# Altium integrated library Altium_WE-LHMI_rev25a.IntLib: 193 symbols (part 2 of 4)
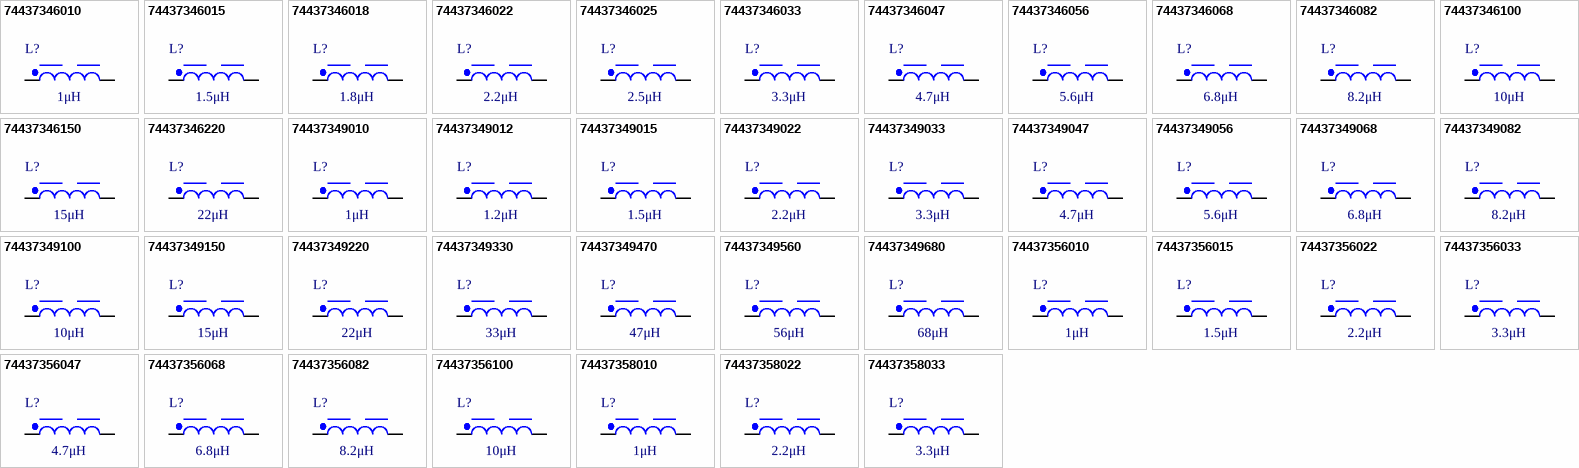
[diagram p5: symbols 74437346010 to 74437358033]

## 74437349015
designator L?, comment 1.5μH
WE-LHMI SMT Power Inductor, size 7050, 1.5μH, 11.3A, 9mΩ; Manufacturer Part Number: 74437349015; Manufacturer: Wurth Elektronik; Case/Size Code: 7050; Saturation Current @ 10%: 9.7A; Saturation Current @ 30%: 18.7A; Self Resonant Frequency: 35MHz; Category: Power Inductors; Match Code: WE-LHMI; ComponentLink1Description: Website Link; ComponentLink1URL: https://www.we-online.com/redexpert/article/74437349015?ad; ComponentLink2Description: Datasheet Link; ComponentLink2URL: https://www.we-online.com/redexpert/spec/74437349015?ad; Mount: Surface Mount; Min Operating Temperature: -40°C; Max Operating Temperature: 125°C; Packaging: Tape and Reel; Length: 7.3mm; Width: 6.6mm; Height: 4.8mm; DC Resistance Max: 9mΩ; Inductance: 1.5μH; Performance Rated Current: 11.3A
footprint WE-LHMI_7050
simulation model 7050_74437349015_1.5u
pins: 1, 2

## 74437349022
designator L?, comment 2.2μH
WE-LHMI SMT Power Inductor, size 7050, 2.2μH, 9.9A, 12mΩ; Manufacturer Part Number: 74437349022; Manufacturer: Wurth Elektronik; Case/Size Code: 7050; Saturation Current @ 10%: 10.5A; Saturation Current @ 30%: 19.1A; Self Resonant Frequency: 30MHz; Category: Power Inductors; Match Code: WE-LHMI; ComponentLink1Description: Website Link; ComponentLink1URL: https://www.we-online.com/redexpert/article/74437349022?ad; ComponentLink2Description: Datasheet Link; ComponentLink2URL: https://www.we-online.com/redexpert/spec/74437349022?ad; Mount: Surface Mount; Min Operating Temperature: -40°C; Max Operating Temperature: 125°C; Packaging: Tape and Reel; Length: 7.3mm; Width: 6.6mm; Height: 4.8mm; DC Resistance Max: 12mΩ; Inductance: 2.2μH; Performance Rated Current: 9.9A
footprint WE-LHMI_7050
simulation model 7050_74437349022_2.2u
pins: 1, 2

## 74437349033
designator L?, comment 3.3μH
WE-LHMI SMT Power Inductor, size 7050, 3.3μH, 7.5A, 20.9mΩ; Manufacturer Part Number: 74437349033; Manufacturer: Wurth Elektronik; Case/Size Code: 7050; Saturation Current @ 10%: 7.9A; Saturation Current @ 30%: 15.1A; Self Resonant Frequency: 26MHz; Category: Power Inductors; Match Code: WE-LHMI; ComponentLink1Description: Website Link; ComponentLink1URL: https://www.we-online.com/redexpert/article/74437349033?ad; ComponentLink2Description: Datasheet Link; ComponentLink2URL: https://www.we-online.com/redexpert/spec/74437349033?ad; Mount: Surface Mount; Min Operating Temperature: -40°C; Max Operating Temperature: 125°C; Packaging: Tape and Reel; Length: 7.3mm; Width: 6.6mm; Height: 4.8mm; DC Resistance Max: 20.9mΩ; Inductance: 3.3μH; Performance Rated Current: 7.5A
footprint WE-LHMI_7050
simulation model 7050_74437349033_3.3u
pins: 1, 2

## 74437349047
designator L?, comment 4.7μH
WE-LHMI SMT Power Inductor, size 7050, 4.7μH, 6.2A, 30.8mΩ; Manufacturer Part Number: 74437349047; Manufacturer: Wurth Elektronik; Case/Size Code: 7050; Saturation Current @ 10%: 7.5A; Saturation Current @ 30%: 14.6A; Self Resonant Frequency: 24MHz; Category: Power Inductors; Match Code: WE-LHMI; ComponentLink1Description: Website Link; ComponentLink1URL: https://www.we-online.com/redexpert/article/74437349047?ad; ComponentLink2Description: Datasheet Link; ComponentLink2URL: https://www.we-online.com/redexpert/spec/74437349047?ad; Mount: Surface Mount; Min Operating Temperature: -40°C; Max Operating Temperature: 125°C; Packaging: Tape and Reel; Length: 7.3mm; Width: 6.6mm; Height: 4.8mm; DC Resistance Max: 30.8mΩ; Inductance: 4.7μH; Performance Rated Current: 6.2A
footprint WE-LHMI_7050
simulation model 7050_74437349047_4.7u
pins: 1, 2

## 74437349056
designator L?, comment 5.6μH
WE-LHMI SMT Power Inductor, size 7050, 5.6μH, 4.9A, 49mΩ; Manufacturer Part Number: 74437349056; Manufacturer: Wurth Elektronik; Case/Size Code: 7050; Saturation Current @ 10%: 6.6A; Saturation Current @ 30%: 16.5A; Self Resonant Frequency: 17MHz; Category: Power Inductors; Match Code: WE-LHMI; ComponentLink1Description: Website Link; ComponentLink1URL: https://www.we-online.com/redexpert/article/74437349056?ad; ComponentLink2Description: Datasheet Link; ComponentLink2URL: https://www.we-online.com/redexpert/spec/74437349056?ad; Mount: Surface Mount; Min Operating Temperature: -40°C; Max Operating Temperature: 125°C; Packaging: Tape and Reel; Length: 7.3mm; Width: 6.6mm; Height: 4.8mm; DC Resistance Max: 49mΩ; Inductance: 5.6μH; Performance Rated Current: 4.9A
footprint WE-LHMI_7050
simulation model 7050_74437349056_5.6u
pins: 1, 2

## 74437349068
designator L?, comment 6.8μH
WE-LHMI SMT Power Inductor, size 7050, 6.8μH, 4.8A, 51.5mΩ; Manufacturer Part Number: 74437349068; Manufacturer: Wurth Elektronik; Case/Size Code: 7050; Saturation Current @ 10%: 6.3A; Saturation Current @ 30%: 13.1A; Self Resonant Frequency: 16MHz; Category: Power Inductors; Match Code: WE-LHMI; ComponentLink1Description: Website Link; ComponentLink1URL: https://www.we-online.com/redexpert/article/74437349068?ad; ComponentLink2Description: Datasheet Link; ComponentLink2URL: https://www.we-online.com/redexpert/spec/74437349068?ad; Mount: Surface Mount; Min Operating Temperature: -40°C; Max Operating Temperature: 125°C; Packaging: Tape and Reel; Length: 7.3mm; Width: 6.6mm; Height: 4.8mm; DC Resistance Max: 51.5mΩ; Inductance: 6.8μH; Performance Rated Current: 4.8A
footprint WE-LHMI_7050
simulation model 7050_74437349068_6.8u
pins: 1, 2

## 74437349082
designator L?, comment 8.2μH
WE-LHMI SMT Power Inductor, size 7050, 8.2μH, 4.35A, 63mΩ; Manufacturer Part Number: 74437349082; Manufacturer: Wurth Elektronik; Case/Size Code: 7050; Saturation Current @ 10%: 6A; Saturation Current @ 30%: 12.2A; Self Resonant Frequency: 15MHz; Category: Power Inductors; Match Code: WE-LHMI; ComponentLink1Description: Website Link; ComponentLink1URL: https://www.we-online.com/redexpert/article/74437349082?ad; ComponentLink2Description: Datasheet Link; ComponentLink2URL: https://www.we-online.com/redexpert/spec/74437349082?ad; Mount: Surface Mount; Min Operating Temperature: -40°C; Max Operating Temperature: 125°C; Packaging: Tape and Reel; Length: 7.3mm; Width: 6.6mm; Height: 4.8mm; DC Resistance Max: 63mΩ; Inductance: 8.2μH; Performance Rated Current: 4.35A
footprint WE-LHMI_7050
simulation model 7050_74437349082_8.2u
pins: 1, 2

## 74437349100
designator L?, comment 10μH
WE-LHMI SMT Power Inductor, size 7050, 10μH, 4.05A, 69mΩ; Manufacturer Part Number: 74437349100; Manufacturer: Wurth Elektronik; Case/Size Code: 7050; Saturation Current @ 10%: 5.6A; Saturation Current @ 30%: 10.5A; Self Resonant Frequency: 12MHz; Category: Power Inductors; Match Code: WE-LHMI; ComponentLink1Description: Website Link; ComponentLink1URL: https://www.we-online.com/redexpert/article/74437349100?ad; ComponentLink2Description: Datasheet Link; ComponentLink2URL: https://www.we-online.com/redexpert/spec/74437349100?ad; Mount: Surface Mount; Min Operating Temperature: -40°C; Max Operating Temperature: 125°C; Packaging: Tape and Reel; Length: 7.3mm; Width: 6.6mm; Height: 4.8mm; DC Resistance Max: 69mΩ; Inductance: 10μH; Performance Rated Current: 4.05A
footprint WE-LHMI_7050
simulation model 7050_74437349100_10u
pins: 1, 2

## 74437349150
designator L?, comment 15μH
WE-LHMI SMT Power Inductor, size 7050, 15μH, 3.6A, 92mΩ; Manufacturer Part Number: 74437349150; Manufacturer: Wurth Elektronik; Case/Size Code: 7050; Saturation Current @ 10%: 3.5A; Saturation Current @ 30%: 7.2A; Self Resonant Frequency: 10MHz; Category: Power Inductors; Match Code: WE-LHMI; ComponentLink1Description: Website Link; ComponentLink1URL: https://www.we-online.com/redexpert/article/74437349150?ad; ComponentLink2Description: Datasheet Link; ComponentLink2URL: https://www.we-online.com/redexpert/spec/74437349150?ad; Mount: Surface Mount; Min Operating Temperature: -40°C; Max Operating Temperature: 125°C; Packaging: Tape and Reel; Length: 7.3mm; Width: 6.6mm; Height: 4.8mm; DC Resistance Max: 92mΩ; Inductance: 15μH; Performance Rated Current: 3.6A
footprint WE-LHMI_7050
simulation model 7050_74437349150_15u
pins: 1, 2

## 74437349220
designator L?, comment 22μH
WE-LHMI SMT Power Inductor, size 7050, 22μH, 2.75A, 170mΩ; Manufacturer Part Number: 74437349220; Manufacturer: Wurth Elektronik; Case/Size Code: 7050; Saturation Current @ 10%: 4.15A; Saturation Current @ 30%: 8.5A; Self Resonant Frequency: 8MHz; Category: Power Inductors; Match Code: WE-LHMI; ComponentLink1Description: Website Link; ComponentLink1URL: https://www.we-online.com/redexpert/article/74437349220?ad; ComponentLink2Description: Datasheet Link; ComponentLink2URL: https://www.we-online.com/redexpert/spec/74437349220?ad; Mount: Surface Mount; Min Operating Temperature: -40°C; Max Operating Temperature: 125°C; Packaging: Tape and Reel; Length: 7.3mm; Width: 6.6mm; Height: 4.8mm; DC Resistance Max: 170mΩ; Inductance: 22μH; Performance Rated Current: 2.75A
footprint WE-LHMI_7050
simulation model 7050_74437349220_22u
pins: 1, 2

## 74437349330
designator L?, comment 33μH
WE-LHMI SMT Power Inductor, size 7050, 33μH, 2.45A, 200mΩ; Manufacturer Part Number: 74437349330; Manufacturer: Wurth Elektronik; Case/Size Code: 7050; Saturation Current @ 10%: 2.6A; Saturation Current @ 30%: 4.75A; Self Resonant Frequency: 7.5MHz; Category: Power Inductors; Match Code: WE-LHMI; ComponentLink1Description: Website Link; ComponentLink1URL: https://www.we-online.com/redexpert/article/74437349330?ad; ComponentLink2Description: Datasheet Link; ComponentLink2URL: https://www.we-online.com/redexpert/spec/74437349330?ad; Mount: Surface Mount; Min Operating Temperature: -40°C; Max Operating Temperature: 125°C; Packaging: Tape and Reel; Length: 7.3mm; Width: 6.6mm; Height: 4.8mm; DC Resistance Max: 200mΩ; Inductance: 33μH; Performance Rated Current: 2.45A
footprint WE-LHMI_7050
simulation model 7050_74437349330_33u
pins: 1, 2

## 74437349470
designator L?, comment 47μH
WE-LHMI SMT Power Inductor, size 7050, 47μH, 1.9A, 330mΩ; Manufacturer Part Number: 74437349470; Manufacturer: Wurth Elektronik; Case/Size Code: 7050; Saturation Current @ 10%: 1.8A; Saturation Current @ 30%: 3.4A; Self Resonant Frequency: 7.3MHz; Category: Power Inductors; Match Code: WE-LHMI; ComponentLink1Description: Website Link; ComponentLink1URL: https://www.we-online.com/redexpert/article/74437349470?ad; ComponentLink2Description: Datasheet Link; ComponentLink2URL: https://www.we-online.com/redexpert/spec/74437349470?ad; Mount: Surface Mount; Min Operating Temperature: -40°C; Max Operating Temperature: 125°C; Packaging: Tape and Reel; Length: 7.3mm; Width: 6.6mm; Height: 4.8mm; DC Resistance Max: 330mΩ; Inductance: 47μH; Performance Rated Current: 1.9A
footprint WE-LHMI_7050
simulation model 7050_74437349470_47u
pins: 1, 2

## 74437349560
designator L?, comment 56μH
WE-LHMI SMT Power Inductor, size 7050, 56μH, 1.75A, 396mΩ; Manufacturer Part Number: 74437349560; Manufacturer: Wurth Elektronik; Case/Size Code: 7050; Saturation Current @ 10%: 1.4A; Saturation Current @ 30%: 2.7A; Self Resonant Frequency: 6MHz; Category: Power Inductors; Match Code: WE-LHMI; ComponentLink1Description: Website Link; ComponentLink1URL: https://www.we-online.com/redexpert/article/74437349560?ad; ComponentLink2Description: Datasheet Link; ComponentLink2URL: https://www.we-online.com/redexpert/spec/74437349560?ad; Mount: Surface Mount; Min Operating Temperature: -40°C; Max Operating Temperature: 125°C; Packaging: Tape and Reel; Length: 7.3mm; Width: 6.6mm; Height: 4.8mm; DC Resistance Max: 396mΩ; Inductance: 56μH; Performance Rated Current: 1.75A
footprint WE-LHMI_7050
simulation model 7050_74437349560_56u
pins: 1, 2

## 74437349680
designator L?, comment 68μH
WE-LHMI SMT Power Inductor, size 7050, 68μH, 1.65A, 445mΩ; Manufacturer Part Number: 74437349680; Manufacturer: Wurth Elektronik; Case/Size Code: 7050; Saturation Current @ 10%: 1.45A; Saturation Current @ 30%: 3.8A; Self Resonant Frequency: 3.5MHz; Category: Power Inductors; Match Code: WE-LHMI; ComponentLink1Description: Website Link; ComponentLink1URL: https://www.we-online.com/redexpert/article/74437349680?ad; ComponentLink2Description: Datasheet Link; ComponentLink2URL: https://www.we-online.com/redexpert/spec/74437349680?ad; Mount: Surface Mount; Min Operating Temperature: -40°C; Max Operating Temperature: 125°C; Packaging: Tape and Reel; Length: 7.3mm; Width: 6.6mm; Height: 4.8mm; DC Resistance Max: 445mΩ; Inductance: 68μH; Performance Rated Current: 1.65A
footprint WE-LHMI_7050
simulation model 7050_74437349680_68u
pins: 1, 2

## 74437356010
designator L?, comment 1μH
WE-LHMI SMT Power Inductor, size 8030, 1μH, 15.7A, 8.35mΩ; Manufacturer Part Number: 74437356010; Manufacturer: Wurth Elektronik; Case/Size Code: 8030; Saturation Current @ 10%: 15.8A; Saturation Current @ 30%: 34.2A; Self Resonant Frequency: 44MHz; Category: Power Inductors; Match Code: WE-LHMI; ComponentLink1Description: Website Link; ComponentLink1URL: https://www.we-online.com/redexpert/article/74437356010?ad; ComponentLink2Description: Datasheet Link; ComponentLink2URL: https://www.we-online.com/redexpert/spec/74437356010?ad; Mount: Surface Mount; Min Operating Temperature: -40°C; Max Operating Temperature: 125°C; Packaging: Tape and Reel; Length: 9.7mm; Width: 8.5mm; Height: 3mm; DC Resistance Max: 8.35mΩ; Inductance: 1μH; Performance Rated Current: 15.7A
footprint WE-LHMI_8030
simulation model 8030_74437356010_1u
pins: 1, 2

## 74437356015
designator L?, comment 1.5μH
WE-LHMI SMT Power Inductor, size 8030, 1.5μH, 12.2A, 13.3mΩ; Manufacturer Part Number: 74437356015; Manufacturer: Wurth Elektronik; Case/Size Code: 8030; Saturation Current @ 10%: 13.5A; Saturation Current @ 30%: 27.2A; Self Resonant Frequency: 32MHz; Category: Power Inductors; Match Code: WE-LHMI; ComponentLink1Description: Website Link; ComponentLink1URL: https://www.we-online.com/redexpert/article/74437356015?ad; ComponentLink2Description: Datasheet Link; ComponentLink2URL: https://www.we-online.com/redexpert/spec/74437356015?ad; Mount: Surface Mount; Min Operating Temperature: -40°C; Max Operating Temperature: 125°C; Packaging: Tape and Reel; Length: 9.7mm; Width: 8.5mm; Height: 3mm; DC Resistance Max: 13.3mΩ; Inductance: 1.5μH; Performance Rated Current: 12.2A
footprint WE-LHMI_8030
simulation model 8030_74437356015_1.5u
pins: 1, 2

## 74437356022
designator L?, comment 2.2μH
WE-LHMI SMT Power Inductor, size 8030, 2.2μH, 9.5A, 20.3mΩ; Manufacturer Part Number: 74437356022; Manufacturer: Wurth Elektronik; Case/Size Code: 8030; Saturation Current @ 10%: 10A; Saturation Current @ 30%: 19.6A; Self Resonant Frequency: 24MHz; Category: Power Inductors; Match Code: WE-LHMI; ComponentLink1Description: Website Link; ComponentLink1URL: https://www.we-online.com/redexpert/article/74437356022?ad; ComponentLink2Description: Datasheet Link; ComponentLink2URL: https://www.we-online.com/redexpert/spec/74437356022?ad; Mount: Surface Mount; Min Operating Temperature: -40°C; Max Operating Temperature: 125°C; Packaging: Tape and Reel; Length: 9.7mm; Width: 8.5mm; Height: 3mm; DC Resistance Max: 20.3mΩ; Inductance: 2.2μH; Performance Rated Current: 9.5A
footprint WE-LHMI_8030
simulation model 8030_74437356022_2.2u
pins: 1, 2

## 74437356033
designator L?, comment 3.3μH
WE-LHMI SMT Power Inductor, size 8030, 3.3μH, 8A, 27.4mΩ; Manufacturer Part Number: 74437356033; Manufacturer: Wurth Elektronik; Case/Size Code: 8030; Saturation Current @ 10%: 8.8A; Saturation Current @ 30%: 16.1A; Self Resonant Frequency: 19MHz; Category: Power Inductors; Match Code: WE-LHMI; ComponentLink1Description: Website Link; ComponentLink1URL: https://www.we-online.com/redexpert/article/74437356033?ad; ComponentLink2Description: Datasheet Link; ComponentLink2URL: https://www.we-online.com/redexpert/spec/74437356033?ad; Mount: Surface Mount; Min Operating Temperature: -40°C; Max Operating Temperature: 125°C; Packaging: Tape and Reel; Length: 9.7mm; Width: 8.5mm; Height: 3mm; DC Resistance Max: 27.4mΩ; Inductance: 3.3μH; Performance Rated Current: 8A
footprint WE-LHMI_8030
simulation model 8030_74437356033_3.3u
pins: 1, 2

## 74437356047
designator L?, comment 4.7μH
WE-LHMI SMT Power Inductor, size 8030, 4.7μH, 6.7A, 34.2mΩ; Manufacturer Part Number: 74437356047; Manufacturer: Wurth Elektronik; Case/Size Code: 8030; Saturation Current @ 10%: 8.1A; Saturation Current @ 30%: 15.2A; Self Resonant Frequency: 16MHz; Category: Power Inductors; Match Code: WE-LHMI; ComponentLink1Description: Website Link; ComponentLink1URL: https://www.we-online.com/redexpert/article/74437356047?ad; ComponentLink2Description: Datasheet Link; ComponentLink2URL: https://www.we-online.com/redexpert/spec/74437356047?ad; Mount: Surface Mount; Min Operating Temperature: -40°C; Max Operating Temperature: 125°C; Packaging: Tape and Reel; Length: 9.7mm; Width: 8.5mm; Height: 3mm; DC Resistance Max: 34.2mΩ; Inductance: 4.7μH; Performance Rated Current: 6.7A
footprint WE-LHMI_8030
simulation model 8030_74437356047_4.7u
pins: 1, 2

## 74437356068
designator L?, comment 6.8μH
WE-LHMI SMT Power Inductor, size 8030, 6.8μH, 5.8A, 49.3mΩ; Manufacturer Part Number: 74437356068; Manufacturer: Wurth Elektronik; Case/Size Code: 8030; Saturation Current @ 10%: 6.9A; Saturation Current @ 30%: 14.2A; Self Resonant Frequency: 14MHz; Category: Power Inductors; Match Code: WE-LHMI; ComponentLink1Description: Website Link; ComponentLink1URL: https://www.we-online.com/redexpert/article/74437356068?ad; ComponentLink2Description: Datasheet Link; ComponentLink2URL: https://www.we-online.com/redexpert/spec/74437356068?ad; Mount: Surface Mount; Min Operating Temperature: -40°C; Max Operating Temperature: 125°C; Packaging: Tape and Reel; Length: 9.7mm; Width: 8.5mm; Height: 3mm; DC Resistance Max: 49.3mΩ; Inductance: 6.8μH; Performance Rated Current: 5.8A
footprint WE-LHMI_8030
simulation model 8030_74437356068_6.8u
pins: 1, 2

## 74437356082
designator L?, comment 8.2μH
WE-LHMI SMT Power Inductor, size 8030, 8.2μH, 4.6A, 59.3mΩ; Manufacturer Part Number: 74437356082; Manufacturer: Wurth Elektronik; Case/Size Code: 8030; Saturation Current @ 10%: 6.3A; Saturation Current @ 30%: 14A; Self Resonant Frequency: 11MHz; Category: Power Inductors; Match Code: WE-LHMI; ComponentLink1Description: Website Link; ComponentLink1URL: https://www.we-online.com/redexpert/article/74437356082?ad; ComponentLink2Description: Datasheet Link; ComponentLink2URL: https://www.we-online.com/redexpert/spec/74437356082?ad; Mount: Surface Mount; Min Operating Temperature: -40°C; Max Operating Temperature: 125°C; Packaging: Tape and Reel; Length: 9.7mm; Width: 8.5mm; Height: 3mm; DC Resistance Max: 59.3mΩ; Inductance: 8.2μH; Performance Rated Current: 4.6A
footprint WE-LHMI_8030
simulation model 8030_74437356082_8.2u
pins: 1, 2

## 74437356100
designator L?, comment 10μH
WE-LHMI SMT Power Inductor, size 8030, 10μH, 4.45A, 71.2mΩ; Manufacturer Part Number: 74437356100; Manufacturer: Wurth Elektronik; Case/Size Code: 8030; Saturation Current @ 10%: 6.2A; Saturation Current @ 30%: 13.4A; Self Resonant Frequency: 10MHz; Category: Power Inductors; Match Code: WE-LHMI; ComponentLink1Description: Website Link; ComponentLink1URL: https://www.we-online.com/redexpert/article/74437356100?ad; ComponentLink2Description: Datasheet Link; ComponentLink2URL: https://www.we-online.com/redexpert/spec/74437356100?ad; Mount: Surface Mount; Min Operating Temperature: -40°C; Max Operating Temperature: 125°C; Packaging: Tape and Reel; Length: 9.7mm; Width: 8.5mm; Height: 3mm; DC Resistance Max: 71.2mΩ; Inductance: 10μH; Performance Rated Current: 4.45A
footprint WE-LHMI_8030
simulation model 8030_74437356100_10u
pins: 1, 2

## 74437358010
designator L?, comment 1μH
WE-LHMI SMT Power Inductor, size 8040, 1μH, 18.6A, 4.63mΩ; Manufacturer Part Number: 74437358010; Manufacturer: Wurth Elektronik; Case/Size Code: 8040; Saturation Current @ 10%: 20.6A; Saturation Current @ 30%: 43.1A; Self Resonant Frequency: 42MHz; Category: Power Inductors; Match Code: WE-LHMI; ComponentLink1Description: Website Link; ComponentLink1URL: https://www.we-online.com/redexpert/article/74437358010?ad; ComponentLink2Description: Datasheet Link; ComponentLink2URL: https://www.we-online.com/redexpert/spec/74437358010?ad; Mount: Surface Mount; Min Operating Temperature: -40°C; Max Operating Temperature: 125°C; Packaging: Tape and Reel; Length: 9.7mm; Width: 8.5mm; Height: 4mm; DC Resistance Max: 4.63mΩ; Inductance: 1μH; Performance Rated Current: 18.6A
footprint WE-LHMI_8040
simulation model 8040_74437358010_1u
pins: 1, 2

## 74437358022
designator L?, comment 2.2μH
WE-LHMI SMT Power Inductor, size 8040, 2.2μH, 12A, 9.41mΩ; Manufacturer Part Number: 74437358022; Manufacturer: Wurth Elektronik; Case/Size Code: 8040; Saturation Current @ 10%: 17.2A; Saturation Current @ 30%: 36.8A; Self Resonant Frequency: 29MHz; Category: Power Inductors; Match Code: WE-LHMI; ComponentLink1Description: Website Link; ComponentLink1URL: https://www.we-online.com/redexpert/article/74437358022?ad; ComponentLink2Description: Datasheet Link; ComponentLink2URL: https://www.we-online.com/redexpert/spec/74437358022?ad; Mount: Surface Mount; Min Operating Temperature: -40°C; Max Operating Temperature: 125°C; Packaging: Tape and Reel; Length: 9.7mm; Width: 8.5mm; Height: 4mm; DC Resistance Max: 9.41mΩ; Inductance: 2.2μH; Performance Rated Current: 12A
footprint WE-LHMI_8040
simulation model 8040_74437358022_2.2u
pins: 1, 2

## 74437358033
designator L?, comment 3.3μH
WE-LHMI SMT Power Inductor, size 8040, 3.3μH, 10A, 14.9mΩ; Manufacturer Part Number: 74437358033; Manufacturer: Wurth Elektronik; Case/Size Code: 8040; Saturation Current @ 10%: 12.4A; Saturation Current @ 30%: 27A; Self Resonant Frequency: 20MHz; Category: Power Inductors; Match Code: WE-LHMI; ComponentLink1Description: Website Link; ComponentLink1URL: https://www.we-online.com/redexpert/article/74437358033?ad; ComponentLink2Description: Datasheet Link; ComponentLink2URL: https://www.we-online.com/redexpert/spec/74437358033?ad; Mount: Surface Mount; Min Operating Temperature: -40°C; Max Operating Temperature: 125°C; Packaging: Tape and Reel; Length: 9.7mm; Width: 8.5mm; Height: 4mm; DC Resistance Max: 14.9mΩ; Inductance: 3.3μH; Performance Rated Current: 10A
footprint WE-LHMI_8040
simulation model 8040_74437358033_3.3u
pins: 1, 2

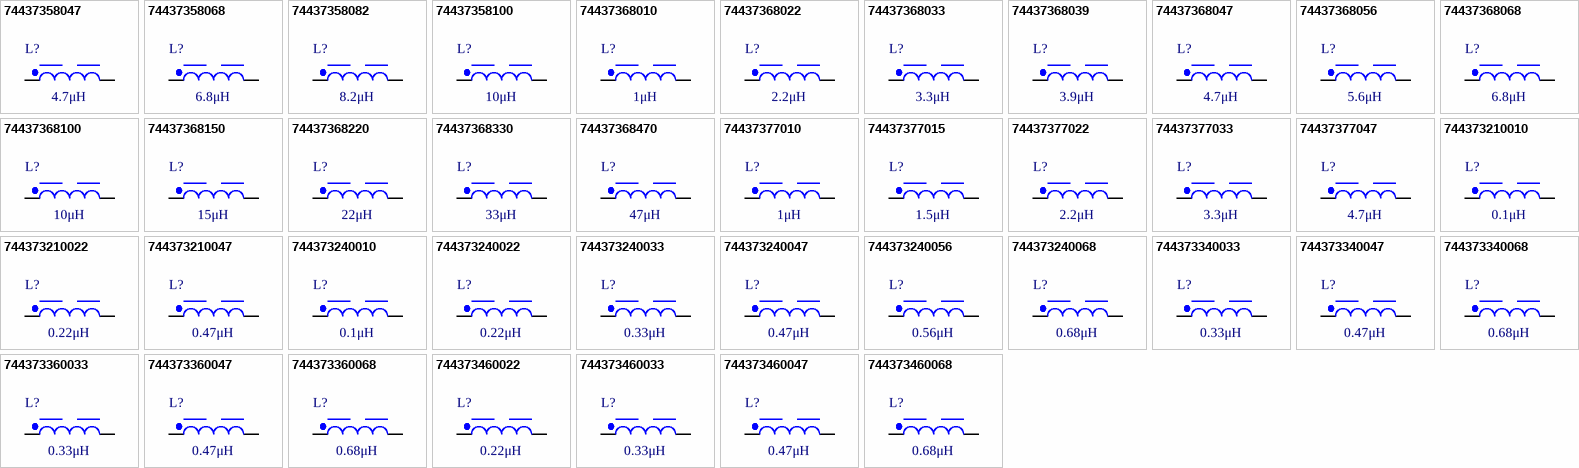
[diagram p2: symbols 74437358047 to 744373460068]

## 74437358047
designator L?, comment 4.7μH
WE-LHMI SMT Power Inductor, size 8040, 4.7μH, 7.9A, 22.6mΩ; Manufacturer Part Number: 74437358047; Manufacturer: Wurth Elektronik; Case/Size Code: 8040; Saturation Current @ 10%: 10.8A; Saturation Current @ 30%: 22.9A; Self Resonant Frequency: 19MHz; Category: Power Inductors; Match Code: WE-LHMI; ComponentLink1Description: Website Link; ComponentLink1URL: https://www.we-online.com/redexpert/article/74437358047?ad; ComponentLink2Description: Datasheet Link; ComponentLink2URL: https://www.we-online.com/redexpert/spec/74437358047?ad; Mount: Surface Mount; Min Operating Temperature: -40°C; Max Operating Temperature: 125°C; Packaging: Tape and Reel; Length: 9.7mm; Width: 8.5mm; Height: 4mm; DC Resistance Max: 22.6mΩ; Inductance: 4.7μH; Performance Rated Current: 7.9A
footprint WE-LHMI_8040
simulation model 8040_74437358047_4.7u
pins: 1, 2

## 74437358068
designator L?, comment 6.8μH
WE-LHMI SMT Power Inductor, size 8040, 6.8μH, 6.4A, 33.4mΩ; Manufacturer Part Number: 74437358068; Manufacturer: Wurth Elektronik; Case/Size Code: 8040; Saturation Current @ 10%: 8.5A; Saturation Current @ 30%: 17.7A; Self Resonant Frequency: 12MHz; Category: Power Inductors; Match Code: WE-LHMI; ComponentLink1Description: Website Link; ComponentLink1URL: https://www.we-online.com/redexpert/article/74437358068?ad; ComponentLink2Description: Datasheet Link; ComponentLink2URL: https://www.we-online.com/redexpert/spec/74437358068?ad; Mount: Surface Mount; Min Operating Temperature: -40°C; Max Operating Temperature: 125°C; Packaging: Tape and Reel; Length: 9.7mm; Width: 8.5mm; Height: 4mm; DC Resistance Max: 33.4mΩ; Inductance: 6.8μH; Performance Rated Current: 6.4A
footprint WE-LHMI_8040
simulation model 8040_74437358068_6.8u
pins: 1, 2

## 74437358082
designator L?, comment 8.2μH
WE-LHMI SMT Power Inductor, size 8040, 8.2μH, 5.45A, 45mΩ; Manufacturer Part Number: 74437358082; Manufacturer: Wurth Elektronik; Case/Size Code: 8040; Saturation Current @ 10%: 8.6A; Saturation Current @ 30%: 16.6A; Self Resonant Frequency: 10MHz; Category: Power Inductors; Match Code: WE-LHMI; ComponentLink1Description: Website Link; ComponentLink1URL: https://www.we-online.com/redexpert/article/74437358082?ad; ComponentLink2Description: Datasheet Link; ComponentLink2URL: https://www.we-online.com/redexpert/spec/74437358082?ad; Mount: Surface Mount; Min Operating Temperature: -40°C; Max Operating Temperature: 125°C; Packaging: Tape and Reel; Length: 9.7mm; Width: 8.5mm; Height: 4mm; DC Resistance Max: 45mΩ; Inductance: 8.2μH; Performance Rated Current: 5.45A
footprint WE-LHMI_8040
simulation model 8040_74437358082_8.2u
pins: 1, 2

## 74437358100
designator L?, comment 10μH
WE-LHMI SMT Power Inductor, size 8040, 10μH, 5.05A, 51.8mΩ; Manufacturer Part Number: 74437358100; Manufacturer: Wurth Elektronik; Case/Size Code: 8040; Saturation Current @ 10%: 8.3A; Saturation Current @ 30%: 15.9A; Self Resonant Frequency: 9MHz; Category: Power Inductors; Match Code: WE-LHMI; ComponentLink1Description: Website Link; ComponentLink1URL: https://www.we-online.com/redexpert/article/74437358100?ad; ComponentLink2Description: Datasheet Link; ComponentLink2URL: https://www.we-online.com/redexpert/spec/74437358100?ad; Mount: Surface Mount; Min Operating Temperature: -40°C; Max Operating Temperature: 125°C; Packaging: Tape and Reel; Length: 9.7mm; Width: 8.5mm; Height: 4mm; DC Resistance Max: 51.8mΩ; Inductance: 10μH; Performance Rated Current: 5.05A
footprint WE-LHMI_8040
simulation model 8040_74437358100_10u
pins: 1, 2

## 74437368010
designator L?, comment 1μH
WE-LHMI SMT Power Inductor, size 1040, 1μH, 21.3A, 3.3mΩ; Manufacturer Part Number: 74437368010; Manufacturer: Wurth Elektronik; Case/Size Code: 1040; Saturation Current @ 10%: 22.7A; Saturation Current @ 30%: 48.3A; Self Resonant Frequency: 45MHz; Category: Power Inductors; Match Code: WE-LHMI; ComponentLink1Description: Website Link; ComponentLink1URL: https://www.we-online.com/redexpert/article/74437368010?ad; ComponentLink2Description: Datasheet Link; ComponentLink2URL: https://www.we-online.com/redexpert/spec/74437368010?ad; Mount: Surface Mount; Min Operating Temperature: -40°C; Max Operating Temperature: 125°C; Packaging: Tape and Reel; Length: 11mm; Width: 10mm; Height: 3.8mm; DC Resistance Max: 3.3mΩ; Inductance: 1μH; Performance Rated Current: 21.3A
footprint WE-LHMI_1040
simulation model 1040_74437368010_1u
pins: 1, 2

## 74437368022
designator L?, comment 2.2μH
WE-LHMI SMT Power Inductor, size 1040, 2.2μH, 14.3A, 7mΩ; Manufacturer Part Number: 74437368022; Manufacturer: Wurth Elektronik; Case/Size Code: 1040; Saturation Current @ 10%: 18.1A; Saturation Current @ 30%: 38.7A; Self Resonant Frequency: 27MHz; Category: Power Inductors; Match Code: WE-LHMI; ComponentLink1Description: Website Link; ComponentLink1URL: https://www.we-online.com/redexpert/article/74437368022?ad; ComponentLink2Description: Datasheet Link; ComponentLink2URL: https://www.we-online.com/redexpert/spec/74437368022?ad; Mount: Surface Mount; Min Operating Temperature: -40°C; Max Operating Temperature: 125°C; Packaging: Tape and Reel; Length: 11mm; Width: 10mm; Height: 3.8mm; DC Resistance Max: 7mΩ; Inductance: 2.2μH; Performance Rated Current: 14.3A
footprint WE-LHMI_1040
simulation model 1040_74437368022_2.2u
pins: 1, 2

## 74437368033
designator L?, comment 3.3μH
WE-LHMI SMT Power Inductor, size 1040, 3.3μH, 11.1A, 11.8mΩ; Manufacturer Part Number: 74437368033; Manufacturer: Wurth Elektronik; Case/Size Code: 1040; Saturation Current @ 10%: 15.6A; Saturation Current @ 30%: 31.2A; Self Resonant Frequency: 22MHz; Category: Power Inductors; Match Code: WE-LHMI; ComponentLink1Description: Website Link; ComponentLink1URL: https://www.we-online.com/redexpert/article/74437368033?ad; ComponentLink2Description: Datasheet Link; ComponentLink2URL: https://www.we-online.com/redexpert/spec/74437368033?ad; Mount: Surface Mount; Min Operating Temperature: -40°C; Max Operating Temperature: 125°C; Packaging: Tape and Reel; Length: 11mm; Width: 10mm; Height: 3.8mm; DC Resistance Max: 11.8mΩ; Inductance: 3.3μH; Performance Rated Current: 11.1A
footprint WE-LHMI_1040
simulation model 1040_74437368033_3.3u
pins: 1, 2

## 74437368039
designator L?, comment 3.9μH
WE-LHMI SMT Power Inductor, size 1040, 3.9μH, 10.3A, 14.5mΩ; Manufacturer Part Number: 74437368039; Manufacturer: Wurth Elektronik; Case/Size Code: 1040; Saturation Current @ 10%: 12A; Saturation Current @ 30%: 26.8A; Self Resonant Frequency: 17MHz; Category: Power Inductors; Match Code: WE-LHMI; ComponentLink1Description: Website Link; ComponentLink1URL: https://www.we-online.com/redexpert/article/74437368039?ad; ComponentLink2Description: Datasheet Link; ComponentLink2URL: https://www.we-online.com/redexpert/spec/74437368039?ad; Mount: Surface Mount; Min Operating Temperature: -40°C; Max Operating Temperature: 125°C; Packaging: Tape and Reel; Length: 11mm; Width: 10mm; Height: 3.8mm; DC Resistance Max: 14.5mΩ; Inductance: 3.9μH; Performance Rated Current: 10.3A
footprint WE-LHMI_1040
simulation model 1040_74437368039_3.9u
pins: 1, 2

## 74437368047
designator L?, comment 4.7μH
WE-LHMI SMT Power Inductor, size 1040, 4.7μH, 9.4A, 15.5mΩ; Manufacturer Part Number: 74437368047; Manufacturer: Wurth Elektronik; Case/Size Code: 1040; Saturation Current @ 10%: 11.7A; Saturation Current @ 30%: 26A; Self Resonant Frequency: 16MHz; Category: Power Inductors; Match Code: WE-LHMI; ComponentLink1Description: Website Link; ComponentLink1URL: https://www.we-online.com/redexpert/article/74437368047?ad; ComponentLink2Description: Datasheet Link; ComponentLink2URL: https://www.we-online.com/redexpert/spec/74437368047?ad; Mount: Surface Mount; Min Operating Temperature: -40°C; Max Operating Temperature: 125°C; Packaging: Tape and Reel; Length: 11mm; Width: 10mm; Height: 3.8mm; DC Resistance Max: 15.5mΩ; Inductance: 4.7μH; Performance Rated Current: 9.4A
footprint WE-LHMI_1040
simulation model 1040_74437368047_4.7u
pins: 1, 2

## 74437368056
designator L?, comment 5.6μH
WE-LHMI SMT Power Inductor, size 1040, 5.6μH, 8.7A, 19.3mΩ; Manufacturer Part Number: 74437368056; Manufacturer: Wurth Elektronik; Case/Size Code: 1040; Saturation Current @ 10%: 9.4A; Saturation Current @ 30%: 19.4A; Self Resonant Frequency: 13MHz; Category: Power Inductors; Match Code: WE-LHMI; ComponentLink1Description: Website Link; ComponentLink1URL: https://www.we-online.com/redexpert/article/74437368056?ad; ComponentLink2Description: Datasheet Link; ComponentLink2URL: https://www.we-online.com/redexpert/spec/74437368056?ad; Mount: Surface Mount; Min Operating Temperature: -40°C; Max Operating Temperature: 125°C; Packaging: Tape and Reel; Length: 11mm; Width: 10mm; Height: 3.8mm; DC Resistance Max: 19.3mΩ; Inductance: 5.6μH; Performance Rated Current: 8.7A
footprint WE-LHMI_1040
simulation model 1040_74437368056_5.6u
pins: 1, 2

## 74437368068
designator L?, comment 6.8μH
WE-LHMI SMT Power Inductor, size 1040, 6.8μH, 8.6A, 23.3mΩ; Manufacturer Part Number: 74437368068; Manufacturer: Wurth Elektronik; Case/Size Code: 1040; Saturation Current @ 10%: 8A; Saturation Current @ 30%: 17.4A; Self Resonant Frequency: 13MHz; Category: Power Inductors; Match Code: WE-LHMI; ComponentLink1Description: Website Link; ComponentLink1URL: https://www.we-online.com/redexpert/article/74437368068?ad; ComponentLink2Description: Datasheet Link; ComponentLink2URL: https://www.we-online.com/redexpert/spec/74437368068?ad; Mount: Surface Mount; Min Operating Temperature: -40°C; Max Operating Temperature: 125°C; Packaging: Tape and Reel; Length: 11mm; Width: 10mm; Height: 3.8mm; DC Resistance Max: 23.3mΩ; Inductance: 6.8μH; Performance Rated Current: 8.6A
footprint WE-LHMI_1040
simulation model 1040_74437368068_6.8u
pins: 1, 2

## 74437368100
designator L?, comment 10μH
WE-LHMI SMT Power Inductor, size 1040, 10μH, 7A, 30mΩ; Manufacturer Part Number: 74437368100; Manufacturer: Wurth Elektronik; Case/Size Code: 1040; Saturation Current @ 10%: 7.9A; Saturation Current @ 30%: 16.8A; Self Resonant Frequency: 12MHz; Category: Power Inductors; Match Code: WE-LHMI; ComponentLink1Description: Website Link; ComponentLink1URL: https://www.we-online.com/redexpert/article/74437368100?ad; ComponentLink2Description: Datasheet Link; ComponentLink2URL: https://www.we-online.com/redexpert/spec/74437368100?ad; Mount: Surface Mount; Min Operating Temperature: -40°C; Max Operating Temperature: 125°C; Packaging: Tape and Reel; Length: 11mm; Width: 10mm; Height: 3.8mm; DC Resistance Max: 30mΩ; Inductance: 10μH; Performance Rated Current: 7A
footprint WE-LHMI_1040
simulation model 1040_74437368100_10u
pins: 1, 2

## 74437368150
designator L?, comment 15μH
WE-LHMI SMT Power Inductor, size 1040, 15μH, 5.7A, 45mΩ; Manufacturer Part Number: 74437368150; Manufacturer: Wurth Elektronik; Case/Size Code: 1040; Saturation Current @ 10%: 5.55A; Saturation Current @ 30%: 11.8A; Self Resonant Frequency: 8MHz; Category: Power Inductors; Match Code: WE-LHMI; ComponentLink1Description: Website Link; ComponentLink1URL: https://www.we-online.com/redexpert/article/74437368150?ad; ComponentLink2Description: Datasheet Link; ComponentLink2URL: https://www.we-online.com/redexpert/spec/74437368150?ad; Mount: Surface Mount; Min Operating Temperature: -40°C; Max Operating Temperature: 125°C; Packaging: Tape and Reel; Length: 11mm; Width: 10mm; Height: 3.8mm; DC Resistance Max: 45mΩ; Inductance: 15μH; Performance Rated Current: 5.7A
footprint WE-LHMI_1040
simulation model 1040_74437368150_15u
pins: 1, 2

## 74437368220
designator L?, comment 22μH
WE-LHMI SMT Power Inductor, size 1040, 22μH, 4.5A, 74mΩ; Manufacturer Part Number: 74437368220; Manufacturer: Wurth Elektronik; Case/Size Code: 1040; Saturation Current @ 10%: 5A; Saturation Current @ 30%: 10.8A; Self Resonant Frequency: 7MHz; Category: Power Inductors; Match Code: WE-LHMI; ComponentLink1Description: Website Link; ComponentLink1URL: https://www.we-online.com/redexpert/article/74437368220?ad; ComponentLink2Description: Datasheet Link; ComponentLink2URL: https://www.we-online.com/redexpert/spec/74437368220?ad; Mount: Surface Mount; Min Operating Temperature: -40°C; Max Operating Temperature: 125°C; Packaging: Tape and Reel; Length: 11mm; Width: 10mm; Height: 3.8mm; DC Resistance Max: 74mΩ; Inductance: 22μH; Performance Rated Current: 4.5A
footprint WE-LHMI_1040
simulation model 1040_74437368220_22u
pins: 1, 2

## 74437368330
designator L?, comment 33μH
WE-LHMI SMT Power Inductor, size 1040, 33μH, 3.75A, 112mΩ; Manufacturer Part Number: 74437368330; Manufacturer: Wurth Elektronik; Case/Size Code: 1040; Saturation Current @ 10%: 3.3A; Saturation Current @ 30%: 7.4A; Self Resonant Frequency: 6MHz; Category: Power Inductors; Match Code: WE-LHMI; ComponentLink1Description: Website Link; ComponentLink1URL: https://www.we-online.com/redexpert/article/74437368330?ad; ComponentLink2Description: Datasheet Link; ComponentLink2URL: https://www.we-online.com/redexpert/spec/74437368330?ad; Mount: Surface Mount; Min Operating Temperature: -40°C; Max Operating Temperature: 125°C; Packaging: Tape and Reel; Length: 11mm; Width: 10mm; Height: 3.8mm; DC Resistance Max: 112mΩ; Inductance: 33μH; Performance Rated Current: 3.75A
footprint WE-LHMI_1040
simulation model 1040_74437368330_33u
pins: 1, 2

## 74437368470
designator L?, comment 47μH
WE-LHMI SMT Power Inductor, size 1040, 47μH, 2.95A, 167mΩ; Manufacturer Part Number: 74437368470; Manufacturer: Wurth Elektronik; Case/Size Code: 1040; Saturation Current @ 10%: 2.55A; Saturation Current @ 30%: 6.7A; Self Resonant Frequency: 5MHz; Category: Power Inductors; Match Code: WE-LHMI; ComponentLink1Description: Website Link; ComponentLink1URL: https://www.we-online.com/redexpert/article/74437368470?ad; ComponentLink2Description: Datasheet Link; ComponentLink2URL: https://www.we-online.com/redexpert/spec/74437368470?ad; Mount: Surface Mount; Min Operating Temperature: -40°C; Max Operating Temperature: 125°C; Packaging: Tape and Reel; Length: 11mm; Width: 10mm; Height: 3.8mm; DC Resistance Max: 167mΩ; Inductance: 47μH; Performance Rated Current: 2.95A
footprint WE-LHMI_1040
simulation model 1040_74437368470_47u
pins: 1, 2

## 74437377010
designator L?, comment 1μH
WE-LHMI SMT Power Inductor, size 1335, 1μH, 23.5A, 3.5mΩ; Manufacturer Part Number: 74437377010; Manufacturer: Wurth Elektronik; Case/Size Code: 1335; Saturation Current @ 10%: 15.4A; Saturation Current @ 30%: 38A; Self Resonant Frequency: 41MHz; Category: Power Inductors; Match Code: WE-LHMI; ComponentLink1Description: Website Link; ComponentLink1URL: https://www.we-online.com/redexpert/article/74437377010?ad; ComponentLink2Description: Datasheet Link; ComponentLink2URL: https://www.we-online.com/redexpert/spec/74437377010?ad; Mount: Surface Mount; Min Operating Temperature: -40°C; Max Operating Temperature: 125°C; Packaging: Tape and Reel; Length: 13.5mm; Width: 12.6mm; Height: 3.3mm; DC Resistance Max: 3.5mΩ; Inductance: 1μH; Performance Rated Current: 23.5A
footprint WE-LHMI_1335
simulation model 1335_74437377010_1u
pins: 1, 2

## 74437377015
designator L?, comment 1.5μH
WE-LHMI SMT Power Inductor, size 1335, 1.5μH, 17.8A, 5.5mΩ; Manufacturer Part Number: 74437377015; Manufacturer: Wurth Elektronik; Case/Size Code: 1335; Saturation Current @ 10%: 14.3A; Saturation Current @ 30%: 33.8A; Self Resonant Frequency: 30MHz; Category: Power Inductors; Match Code: WE-LHMI; ComponentLink1Description: Website Link; ComponentLink1URL: https://www.we-online.com/redexpert/article/74437377015?ad; ComponentLink2Description: Datasheet Link; ComponentLink2URL: https://www.we-online.com/redexpert/spec/74437377015?ad; Mount: Surface Mount; Min Operating Temperature: -40°C; Max Operating Temperature: 125°C; Packaging: Tape and Reel; Length: 13.5mm; Width: 12.6mm; Height: 3.3mm; DC Resistance Max: 5.5mΩ; Inductance: 1.5μH; Performance Rated Current: 17.8A
footprint WE-LHMI_1335
simulation model 1335_74437377015_1.5u
pins: 1, 2

## 74437377022
designator L?, comment 2.2μH
WE-LHMI SMT Power Inductor, size 1335, 2.2μH, 14.3A, 8mΩ; Manufacturer Part Number: 74437377022; Manufacturer: Wurth Elektronik; Case/Size Code: 1335; Saturation Current @ 10%: 14.2A; Saturation Current @ 30%: 31.2A; Self Resonant Frequency: 22MHz; Category: Power Inductors; Match Code: WE-LHMI; ComponentLink1Description: Website Link; ComponentLink1URL: https://www.we-online.com/redexpert/article/74437377022?ad; ComponentLink2Description: Datasheet Link; ComponentLink2URL: https://www.we-online.com/redexpert/spec/74437377022?ad; Mount: Surface Mount; Min Operating Temperature: -40°C; Max Operating Temperature: 125°C; Packaging: Tape and Reel; Length: 13.5mm; Width: 12.6mm; Height: 3.3mm; DC Resistance Max: 8mΩ; Inductance: 2.2μH; Performance Rated Current: 14.3A
footprint WE-LHMI_1335
simulation model 1335_74437377022_2.2u
pins: 1, 2

## 74437377033
designator L?, comment 3.3μH
WE-LHMI SMT Power Inductor, size 1335, 3.3μH, 12.8A, 11mΩ; Manufacturer Part Number: 74437377033; Manufacturer: Wurth Elektronik; Case/Size Code: 1335; Saturation Current @ 10%: 13.3A; Saturation Current @ 30%: 30.9A; Self Resonant Frequency: 17MHz; Category: Power Inductors; Match Code: WE-LHMI; ComponentLink1Description: Website Link; ComponentLink1URL: https://www.we-online.com/redexpert/article/74437377033?ad; ComponentLink2Description: Datasheet Link; ComponentLink2URL: https://www.we-online.com/redexpert/spec/74437377033?ad; Mount: Surface Mount; Min Operating Temperature: -40°C; Max Operating Temperature: 125°C; Packaging: Tape and Reel; Length: 13.5mm; Width: 12.6mm; Height: 3.3mm; DC Resistance Max: 11mΩ; Inductance: 3.3μH; Performance Rated Current: 12.8A
footprint WE-LHMI_1335
simulation model 1335_74437377033_3.3u
pins: 1, 2

## 74437377047
designator L?, comment 4.7μH
WE-LHMI SMT Power Inductor, size 1335, 4.7μH, 10.6A, 15mΩ; Manufacturer Part Number: 74437377047; Manufacturer: Wurth Elektronik; Case/Size Code: 1335; Saturation Current @ 10%: 12A; Saturation Current @ 30%: 25.1A; Self Resonant Frequency: 13MHz; Category: Power Inductors; Match Code: WE-LHMI; ComponentLink1Description: Website Link; ComponentLink1URL: https://www.we-online.com/redexpert/article/74437377047?ad; ComponentLink2Description: Datasheet Link; ComponentLink2URL: https://www.we-online.com/redexpert/spec/74437377047?ad; Mount: Surface Mount; Min Operating Temperature: -40°C; Max Operating Temperature: 125°C; Packaging: Tape and Reel; Length: 13.5mm; Width: 12.6mm; Height: 3.3mm; DC Resistance Max: 15mΩ; Inductance: 4.7μH; Performance Rated Current: 10.6A
footprint WE-LHMI_1335
simulation model 1335_74437377047_4.7u
pins: 1, 2

## 744373210010
designator L?, comment 0.1μH
WE-LHMI SMT Power Inductor, size 4012, 0.1μH, 14.1A, 5.5mΩ; Manufacturer Part Number: 744373210010; Manufacturer: Wurth Elektronik; Case/Size Code: 4012; Saturation Current @ 10%: 16.1A; Saturation Current @ 30%: 29.6A; Self Resonant Frequency: 365MHz; Category: Power Inductors; Match Code: WE-LHMI; ComponentLink1Description: Website Link; ComponentLink1URL: https://www.we-online.com/redexpert/article/744373210010?ad; ComponentLink2Description: Datasheet Link; ComponentLink2URL: https://www.we-online.com/redexpert/spec/744373210010?ad; Mount: Surface Mount; Min Operating Temperature: -40°C; Max Operating Temperature: 125°C; Packaging: Tape and Reel; Length: 4.45mm; Width: 4.06mm; Height: 1mm; DC Resistance Max: 5.5mΩ; Inductance: 0.1μH; Performance Rated Current: 14.1A
footprint WE-LHMI_4012
simulation model 4012_744373210010_0.1u
pins: 1, 2

## 744373210022
designator L?, comment 0.22μH
WE-LHMI SMT Power Inductor, size 4012, 0.22μH, 11.4A, 8mΩ; Manufacturer Part Number: 744373210022; Manufacturer: Wurth Elektronik; Case/Size Code: 4012; Saturation Current @ 10%: 11.1A; Saturation Current @ 30%: 21.5A; Self Resonant Frequency: 230MHz; Category: Power Inductors; Match Code: WE-LHMI; ComponentLink1Description: Website Link; ComponentLink1URL: https://www.we-online.com/redexpert/article/744373210022?ad; ComponentLink2Description: Datasheet Link; ComponentLink2URL: https://www.we-online.com/redexpert/spec/744373210022?ad; Mount: Surface Mount; Min Operating Temperature: -40°C; Max Operating Temperature: 125°C; Packaging: Tape and Reel; Length: 4.45mm; Width: 4.06mm; Height: 1mm; DC Resistance Max: 8mΩ; Inductance: 0.22μH; Performance Rated Current: 11.4A
footprint WE-LHMI_4012
simulation model 4012_744373210022_0.22u
pins: 1, 2

## 744373210047
designator L?, comment 0.47μH
WE-LHMI SMT Power Inductor, size 4012, 0.47μH, 6.9A, 20mΩ; Manufacturer Part Number: 744373210047; Manufacturer: Wurth Elektronik; Case/Size Code: 4012; Saturation Current @ 10%: 6.8A; Saturation Current @ 30%: 12.5A; Self Resonant Frequency: 120MHz; Category: Power Inductors; Match Code: WE-LHMI; ComponentLink1Description: Website Link; ComponentLink1URL: https://www.we-online.com/redexpert/article/744373210047?ad; ComponentLink2Description: Datasheet Link; ComponentLink2URL: https://www.we-online.com/redexpert/spec/744373210047?ad; Mount: Surface Mount; Min Operating Temperature: -40°C; Max Operating Temperature: 125°C; Packaging: Tape and Reel; Length: 4.45mm; Width: 4.06mm; Height: 1mm; DC Resistance Max: 20mΩ; Inductance: 0.47μH; Performance Rated Current: 6.9A
footprint WE-LHMI_4012
simulation model 4012_744373210047_0.47u
pins: 1, 2

## 744373240010
designator L?, comment 0.1μH
WE-LHMI SMT Power Inductor, size 4020, 0.1μH, 16.5A, 4mΩ; Manufacturer Part Number: 744373240010; Manufacturer: Wurth Elektronik; Case/Size Code: 4020; Saturation Current @ 10%: 20.9A; Saturation Current @ 30%: 37.6A; Self Resonant Frequency: 323MHz; Category: Power Inductors; Match Code: WE-LHMI; ComponentLink1Description: Website Link; ComponentLink1URL: https://www.we-online.com/redexpert/article/744373240010?ad; ComponentLink2Description: Datasheet Link; ComponentLink2URL: https://www.we-online.com/redexpert/spec/744373240010?ad; Mount: Surface Mount; Min Operating Temperature: -40°C; Max Operating Temperature: 125°C; Packaging: Tape and Reel; Length: 4.45mm; Width: 4.06mm; Height: 1.8mm; DC Resistance Max: 4mΩ; Inductance: 0.1μH; Performance Rated Current: 16.5A
footprint WE-LHMI_4020
simulation model 4020_744373240010_0.1u
pins: 1, 2

## 744373240022
designator L?, comment 0.22μH
WE-LHMI SMT Power Inductor, size 4020, 0.22μH, 11.4A, 7.3mΩ; Manufacturer Part Number: 744373240022; Manufacturer: Wurth Elektronik; Case/Size Code: 4020; Saturation Current @ 10%: 10.8A; Saturation Current @ 30%: 22.3A; Self Resonant Frequency: 195MHz; Category: Power Inductors; Match Code: WE-LHMI; ComponentLink1Description: Website Link; ComponentLink1URL: https://www.we-online.com/redexpert/article/744373240022?ad; ComponentLink2Description: Datasheet Link; ComponentLink2URL: https://www.we-online.com/redexpert/spec/744373240022?ad; Mount: Surface Mount; Min Operating Temperature: -40°C; Max Operating Temperature: 125°C; Packaging: Tape and Reel; Length: 4.45mm; Width: 4.06mm; Height: 1.8mm; DC Resistance Max: 7.3mΩ; Inductance: 0.22μH; Performance Rated Current: 11.4A
footprint WE-LHMI_4020
simulation model 4020_744373240022_0.22u
pins: 1, 2

## 744373240033
designator L?, comment 0.33μH
WE-LHMI SMT Power Inductor, size 4020, 0.33μH, 10.5A, 8.6mΩ; Manufacturer Part Number: 744373240033; Manufacturer: Wurth Elektronik; Case/Size Code: 4020; Saturation Current @ 10%: 11.2A; Saturation Current @ 30%: 22A; Self Resonant Frequency: 143MHz; Category: Power Inductors; Match Code: WE-LHMI; ComponentLink1Description: Website Link; ComponentLink1URL: https://www.we-online.com/redexpert/article/744373240033?ad; ComponentLink2Description: Datasheet Link; ComponentLink2URL: https://www.we-online.com/redexpert/spec/744373240033?ad; Mount: Surface Mount; Min Operating Temperature: -40°C; Max Operating Temperature: 125°C; Packaging: Tape and Reel; Length: 4.45mm; Width: 4.06mm; Height: 1.8mm; DC Resistance Max: 8.6mΩ; Inductance: 0.33μH; Performance Rated Current: 10.5A
footprint WE-LHMI_4020
simulation model 4020_744373240033_0.33u
pins: 1, 2

## 744373240047
designator L?, comment 0.47μH
WE-LHMI SMT Power Inductor, size 4020, 0.47μH, 8.7A, 14mΩ; Manufacturer Part Number: 744373240047; Manufacturer: Wurth Elektronik; Case/Size Code: 4020; Saturation Current @ 10%: 10.4A; Saturation Current @ 30%: 19.6A; Self Resonant Frequency: 122MHz; Category: Power Inductors; Match Code: WE-LHMI; ComponentLink1Description: Website Link; ComponentLink1URL: https://www.we-online.com/redexpert/article/744373240047?ad; ComponentLink2Description: Datasheet Link; ComponentLink2URL: https://www.we-online.com/redexpert/spec/744373240047?ad; Mount: Surface Mount; Min Operating Temperature: -40°C; Max Operating Temperature: 125°C; Packaging: Tape and Reel; Length: 4.45mm; Width: 4.06mm; Height: 1.8mm; DC Resistance Max: 14mΩ; Inductance: 0.47μH; Performance Rated Current: 8.7A
footprint WE-LHMI_4020
simulation model 4020_744373240047_0.47u
pins: 1, 2

## 744373240056
designator L?, comment 0.56μH
WE-LHMI SMT Power Inductor, size 4020, 0.56μH, 7.9A, 16mΩ; Manufacturer Part Number: 744373240056; Manufacturer: Wurth Elektronik; Case/Size Code: 4020; Saturation Current @ 10%: 6.7A; Saturation Current @ 30%: 13A; Self Resonant Frequency: 104MHz; Category: Power Inductors; Match Code: WE-LHMI; ComponentLink1Description: Website Link; ComponentLink1URL: https://www.we-online.com/redexpert/article/744373240056?ad; ComponentLink2Description: Datasheet Link; ComponentLink2URL: https://www.we-online.com/redexpert/spec/744373240056?ad; Mount: Surface Mount; Min Operating Temperature: -40°C; Max Operating Temperature: 125°C; Packaging: Tape and Reel; Length: 4.45mm; Width: 4.06mm; Height: 1.8mm; DC Resistance Max: 16mΩ; Inductance: 0.56μH; Performance Rated Current: 7.9A
footprint WE-LHMI_4020
simulation model 4020_744373240056_0.56u
pins: 1, 2

## 744373240068
designator L?, comment 0.68μH
WE-LHMI SMT Power Inductor, size 4020, 0.68μH, 7.3A, 19mΩ; Manufacturer Part Number: 744373240068; Manufacturer: Wurth Elektronik; Case/Size Code: 4020; Saturation Current @ 10%: 7.1A; Saturation Current @ 30%: 14A; Self Resonant Frequency: 90MHz; Category: Power Inductors; Match Code: WE-LHMI; ComponentLink1Description: Website Link; ComponentLink1URL: https://www.we-online.com/redexpert/article/744373240068?ad; ComponentLink2Description: Datasheet Link; ComponentLink2URL: https://www.we-online.com/redexpert/spec/744373240068?ad; Mount: Surface Mount; Min Operating Temperature: -40°C; Max Operating Temperature: 125°C; Packaging: Tape and Reel; Length: 4.45mm; Width: 4.06mm; Height: 1.8mm; DC Resistance Max: 19mΩ; Inductance: 0.68μH; Performance Rated Current: 7.3A
footprint WE-LHMI_4020
simulation model 4020_744373240068_0.68u
pins: 1, 2

## 744373340033
designator L?, comment 0.33μH
WE-LHMI SMT Power Inductor, size 5020, 0.33μH, 12.4A, 7.3mΩ; Manufacturer Part Number: 744373340033; Manufacturer: Wurth Elektronik; Case/Size Code: 5020; Saturation Current @ 10%: 14.7A; Saturation Current @ 30%: 29.3A; Self Resonant Frequency: 100MHz; Category: Power Inductors; Match Code: WE-LHMI; ComponentLink1Description: Website Link; ComponentLink1URL: https://www.we-online.com/redexpert/article/744373340033?ad; ComponentLink2Description: Datasheet Link; ComponentLink2URL: https://www.we-online.com/redexpert/spec/744373340033?ad; Mount: Surface Mount; Min Operating Temperature: -40°C; Max Operating Temperature: 125°C; Packaging: Tape and Reel; Length: 5.7mm; Width: 5.2mm; Height: 1.8mm; DC Resistance Max: 7.3mΩ; Inductance: 0.33μH; Performance Rated Current: 12.4A
footprint WE-LHMI_5020
simulation model 5020_744373340033_0.33u
pins: 1, 2